# Altium footprint library INDUCTOR.PcbLib: 8 footprints
Each footprint in its own frame and in the unit in brackets; x right, y up, seen from the top. Pads: shape width x height; smd on the part's side, far side on the other; paste and mask are expansions set on the pad; w line width, h text height; cw(c..) or ccw(c..) is an arc to the next point about the centre after c.
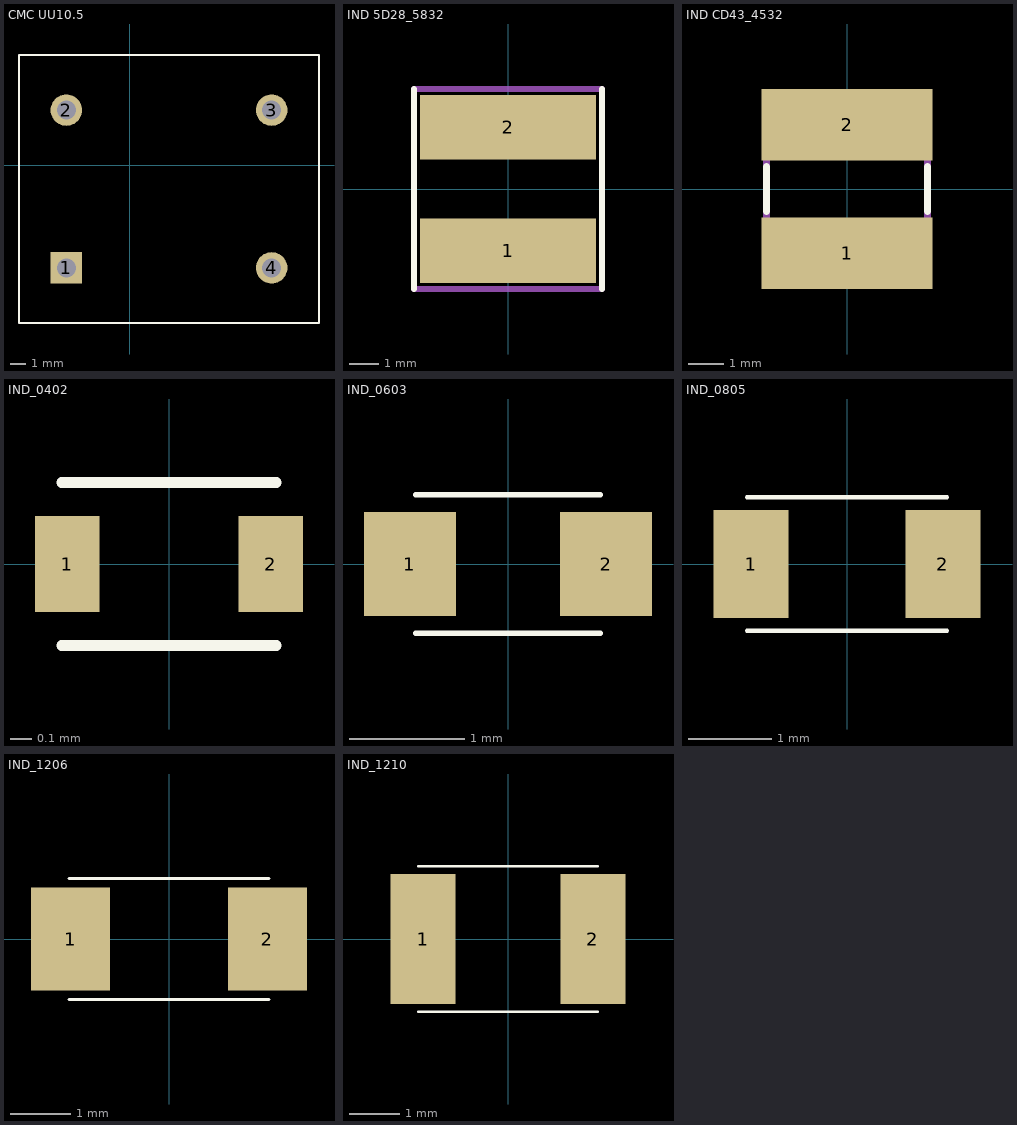
[diagram p0: the footprints below, top view; thin cyan lines are the x and y axes]

## CMC UU10.5 [mm]
pads (4):
  rect 2x2 hole 1.2: 1(-4,-6.5)
  round 2 hole 1.2: 2(-4,3.5) 3(9,3.5) 4(9,-6.5)
Top Overlay:
  lines w0.127: -7,-10 -7,7 12,7 12,-10 -7,-10
3D body "User Library-Choke 13x10.STEP": height 28.08, standoff -2.7, extent -8.411,-11.049 13.745,7.951

## IND 5D28_5832 [mm] "Cu?n C?m Dán SMD 5D28 5832-100 10uH 1.3A"
pads (2):
  rect 6x2.2 smd: 1(0,-2.1) 2(0,2.1)
Top Overlay:
  lines w0.2: -3.2,-3.4 -3.2,3.4 ; 3.2,-3.4 3.2,3.4
Mechanical 13:
  lines w0.2: -3.2,-3.4 -3.2,3.4 3.2,3.4 3.2,-3.4 -3.2,-3.4
3D body "User Library-CDRH5D28-1.STEP": height 2, standoff 0, extent -3.005,-3 3,3

## IND CD43_4532 [mm]
pads (2):
  rect 4.8x2 smd: 1(0,-1.8) 2(0,1.8)
Top Overlay:
  lines w0.2: -2.25,-0.625 -2.25,0.625 ; 2.25,-0.625 2.25,0.625
Mechanical 13:
  lines w0.2: -2.25,-2 2.25,-2 2.25,2 -2.25,2 -2.25,-2
3D body "SMD_Inductor_CD43.step": height 3.22, standoff -0.01, extent -2,-2.25 2,2.25

## IND_0402 [mm]
pads (2):
  rect 0.3x0.45 smd: 1(-0.475,0) 2(0.475,0)
Top Overlay:
  lines w0.05: -0.5,-0.38 0.5,-0.38 ; -0.5,0.38 0.5,0.38
3D body "L_0402.stp": height 0.52, standoff 0.01, extent -0.508,-0.254 0.508,0.254

## IND_0603 [mm]
pads (2):
  rect 0.8x0.9 smd: 1(-0.85,0) 2(0.85,0)
Top Overlay:
  lines w0.05: -0.8,-0.6 0.8,-0.6 ; -0.8,0.6 0.8,0.6
3D body "L_0603.stp": height 0.81, standoff 0.01, extent -0.8,-0.4 0.8,0.4

## IND_0805 [mm]
pads (2):
  rect 0.9x1.3 smd: 1(-1.15,0) 2(1.15,0)
Top Overlay:
  lines w0.05: -1.2,-0.8 1.2,-0.8 ; -1.2,0.8 1.2,0.8
3D body "L_0805.stp": height 0.61, standoff 0.01, extent -1,-0.625 1,0.625

## IND_1206 [mm]
pads (2):
  rect 1.3x1.7 smd: 1(-1.625,0) 2(1.625,0)
Top Overlay:
  lines w0.05: -1.65,-1 1.65,-1 ; -1.65,1 1.65,1
3D body "L_1206.stp": height 0.81, standoff 0.01, extent -1.6,-0.8 1.6,0.8

## IND_1210 [mm]
pads (2):
  rect 1.3x2.6 smd: 1(-1.7,0) 2(1.7,0)
Top Overlay:
  lines w0.05: -1.8,-1.45 1.8,-1.45 ; -1.8,1.45 1.8,1.45
3D body "L_1210.stp": height 0.96, standoff 0.01, extent -1.6,-1.25 1.6,1.25